# EAGLE library part XF2*-23? (library con-omron)
OMRON FPC Connector Source : http://www.omron.com/ecb/products/pdf/fpc.pdf
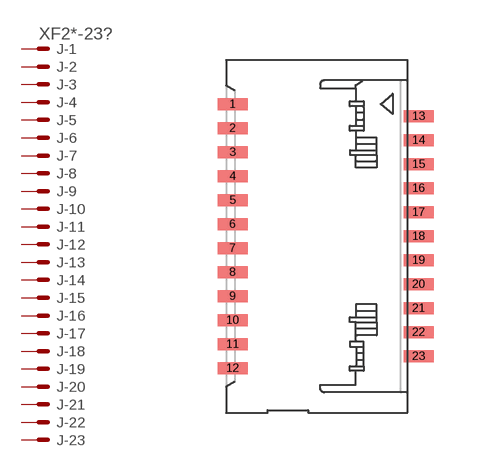
[diagram p3: symbol with the pads of XF2B-2345-31A; footprint XF2B-2345-31A]

Designator prefix J; gates -1=PV -2=P -3=P -4=P -5=P -6=P -7=P -8=P -9=P -10=P -11=P -12=P -13=P -14=P -15=P -16=P -17=P -18=P -19=P -20=P -21=P -22=P -23=P

## XF2B-2345-31A (MPN: XF2B-2345-31A; OC_FARNELL: unknown; OC_NEWARK: 37M0751)  [XF2B-2345-31A]
1  -1:MSV  pas
2  -2:MS  pas
3  -3:MS  pas
4  -4:MS  pas
5  -5:MS  pas
6  -6:MS  pas
7  -7:MS  pas
8  -8:MS  pas
9  -9:MS  pas
10  -10:MS  pas
11  -11:MS  pas
12  -12:MS  pas
13  -13:MS  pas
14  -14:MS  pas
15  -15:MS  pas
16  -16:MS  pas
17  -17:MS  pas
18  -18:MS  pas
19  -19:MS  pas
20  -20:MS  pas
21  -21:MS  pas
22  -22:MS  pas
23  -23:MS  pas

## Footprint XF2B-2345-31A (pad centres in mm)
Rotary Backlock Type (0.3 mm-pitch) Source : http://www.omron.com/ecb/products/pdf/fpc.pdf
smd 0.75 x 0.3: 1 -2.325,3.3; 2 -2.325,2.7; 3 -2.325,2.1; 4 -2.325,1.5; 5 -2.325,0.9; 6 -2.325,0.3; 7 -2.325,-0.3; 8 -2.325,-0.9; 9 -2.325,-1.5; 10 -2.325,-2.1; 11 -2.325,-2.7; 12 -2.325,-3.3; 13 2.325,3; 14 2.325,2.4; 15 2.325,1.8; 16 2.325,1.2; 17 2.325,0.6; 18 2.325,0; 19 2.325,-0.6; 20 2.325,-1.2; 21 2.325,-1.8; 22 2.325,-2.4; 23 2.325,-3